# Altium footprint library CN_RJ45_LED_HOR.PcbLib: 1 footprints
Each footprint in its own frame and in the unit in brackets; x right, y up, seen from the top. Pads: shape width x height; smd on the part's side, far side on the other; paste and mask are expansions set on the pad; w line width, h text height; cw(c..) or ccw(c..) is an arc to the next point about the centre after c.
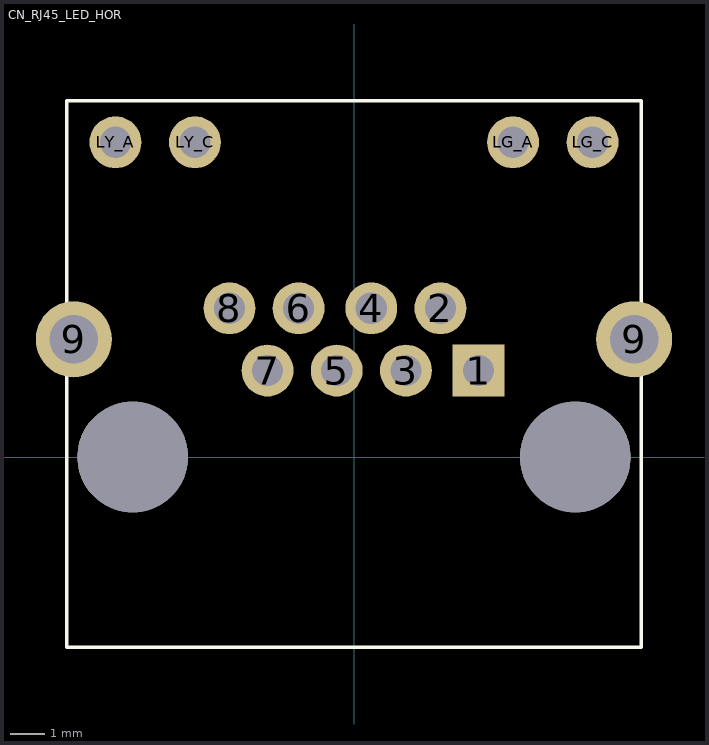
[diagram p0: the footprint, top view; thin cyan lines are the x and y axes]

## CN_RJ45_LED_HOR [mm] "Standard RJ45 horizontal connector"
pads (16):
  rect 1.5x1.5 hole 0.9: 1(3.6,2.5)
  round 1.5 hole 0.9: 2(2.5,4.3) 3(1.5,2.5) 4(0.5,4.3) 5(-0.5,2.5) 6(-1.6,4.3) 7(-2.5,2.5) 8(-3.6,4.3) LG_A(4.6,9.1) LG_C(6.9,9.1) LY_A(-6.9,9.1) LY_C(-4.6,9.1)
  round 2.2 hole 1.4: 9(-8.1,3.4) 9(8.1,3.4)
  round 3.2 hole 3.2 unplated: ""(-6.4,0) ""(6.4,0)
Top Overlay:
  lines w0.1: -8.3,-5.5 8.3,-5.5 8.3,10.3 -8.3,10.3 -8.3,-5.5
3D body: height 14.6, standoff -4.12, extent -9.313,-6.273 9.315,10.448